# Altium footprint library General.PcbLib: 18 footprints (part 1 of 2)
Each footprint in its own frame and in the unit in brackets; x right, y up, seen from the top. Pads: shape width x height; smd on the part's side, far side on the other; paste and mask are expansions set on the pad; w line width, h text height; cw(c..) or ccw(c..) is an arc to the next point about the centre after c.
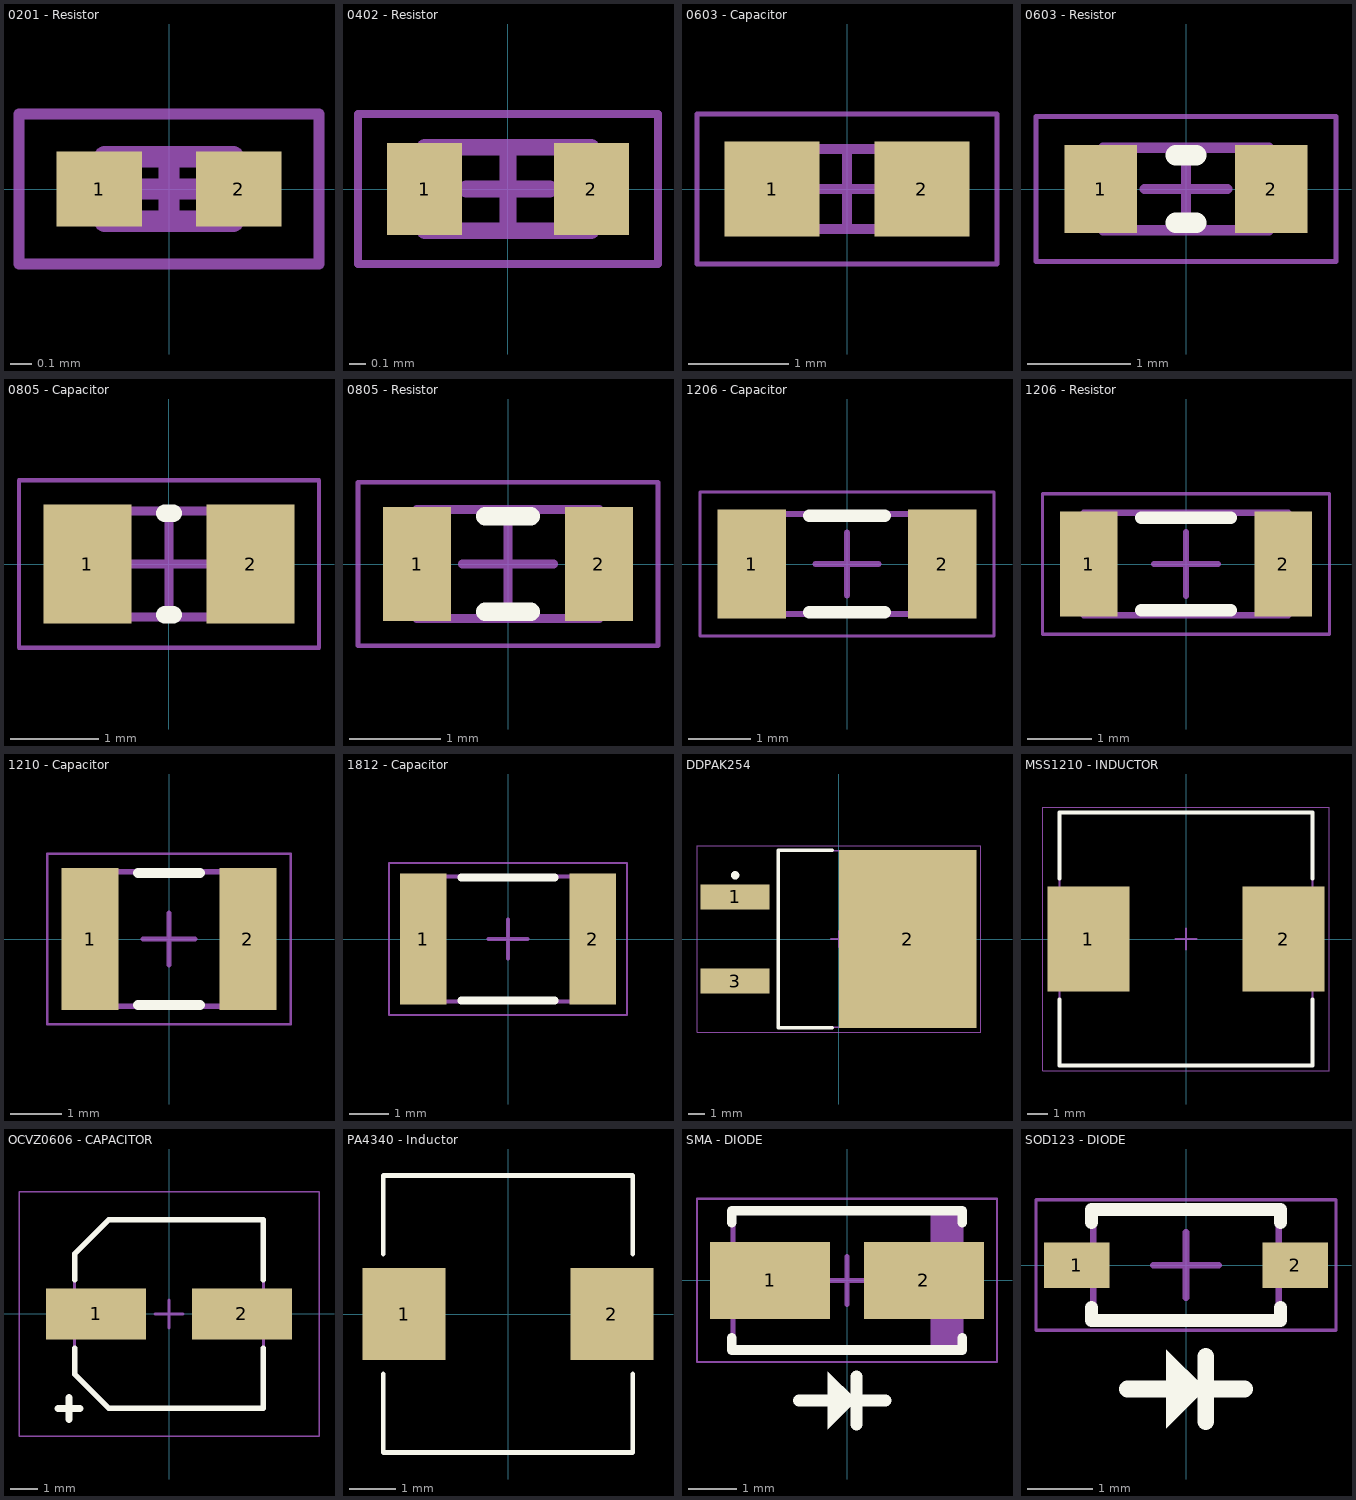
[diagram p0: the footprints below, top view; thin cyan lines are the x and y axes]

## 0201 - Resistor [mm] "0201 Chip Resistor - IPC Medium Density"
height 0.25
pads (2):
  rect 0.4x0.35 smd: 1(-0.325,0) 2(0.325,0)
Mechanical 13:
  lines w0.1: -0.3,-0.15 -0.3,0.15 0.3,0.15 0.3,-0.15 -0.3,-0.15
Mechanical 15:
  lines w0.05: -0.7,-0.35 -0.7,0.35 0.7,0.35 0.7,-0.35 -0.7,-0.35
  lines w0.1: -0.15,0 0.15,0 ; 0,-0.15 0,0.15
3D body "0201 - Resistor.step": height 0.25, standoff 0, extent -0.3,-0.15 0.3,0.15

## 0402 - Resistor [mm] "0402 Chip Resistor - IPC Medium Density"
height 0.35
pads (2):
  rect 0.45x0.55 smd: 1(-0.5,0) 2(0.5,0)
Mechanical 13:
  lines w0.1: -0.5,-0.25 -0.5,0.25 0.5,0.25 0.5,-0.25 -0.5,-0.25
Mechanical 15:
  lines w0.05: -0.9,-0.45 -0.9,0.45 0.9,0.45 0.9,-0.45 -0.9,-0.45
  lines w0.1: -0.25,0 0.25,0 ; 0,-0.25 0,0.25
3D body "0402 - Resistor.step": height 0.35, standoff 0, extent -0.5,-0.25 0.5,0.25

## 0603 - Capacitor [mm] "0603 Chip Capacitor - IPC Medium Density"
height 0.8
pads (2):
  rect 0.95x0.95 smd: 1(-0.75,0) 2(0.75,0)
Mechanical 13:
  lines w0.1: -0.8,-0.4 -0.8,0.4 0.8,0.4 0.8,-0.4 -0.8,-0.4
Mechanical 15:
  lines w0.05: -1.5,-0.75 -1.5,0.75 1.5,0.75 1.5,-0.75 -1.5,-0.75
  lines w0.1: -0.4,0 0.4,0 ; 0,-0.4 0,0.4
3D body "0603 Capacitor.step": height 0.8, standoff 0, extent -0.8,-0.4 0.8,0.4

## 0603 - Resistor [mm] "0603 Chip Resistor - IPC Medium Density"
height 0.45
pads (2):
  rect 0.7x0.85 smd: 1(-0.825,0) 2(0.825,0)
Top Overlay:
  lines w0.2: -0.1,-0.325 0.1,-0.325 ; -0.1,0.325 0.1,0.325
Mechanical 13:
  lines w0.1: -0.8,-0.4 0.8,-0.4 0.8,0.4 -0.8,0.4 -0.8,-0.4
Mechanical 15:
  lines w0.05: -1.45,-0.7 1.45,-0.7 1.45,0.7 -1.45,0.7 -1.45,-0.7
  lines w0.1: -0.4,0 0.4,0 ; 0,-0.4 0,0.4
3D body "0603 - Resistor.step": height 0.45, standoff 0, extent -0.8,-0.4 0.8,0.4

## 0805 - Capacitor [mm] "0805 Chip Capacitor - IPC Medium Density"
height 1.2
pads (2):
  rect 1x1.35 smd: 1(-0.925,0) 2(0.925,0)
Top Overlay:
  lines w0.2: -0.05,-0.575 0.05,-0.575 ; -0.05,0.575 0.05,0.575
Mechanical 13:
  lines w0.1: -1,-0.6 1,-0.6 1,0.6 -1,0.6 -1,-0.6
Mechanical 15:
  lines w0.05: -1.7,-0.95 1.7,-0.95 1.7,0.95 -1.7,0.95 -1.7,-0.95
  lines w0.1: -0.5,0 0.5,0 ; 0,-0.5 0,0.5
3D body "0805 - Capacitor.step": height 1.2, standoff 0, extent -1,-0.6 1,0.6

## 0805 - Resistor [mm] "0805 Chip Resistor - IPC Medium Density"
height 0.5
pads (2):
  rect 0.75x1.25 smd: 1(-1,0) 2(1,0)
Top Overlay:
  lines w0.2: -0.25,-0.525 0.25,-0.525 ; -0.25,0.525 0.25,0.525
Mechanical 13:
  lines w0.1: -1,-0.6 -1,0.6 1,0.6 1,-0.6 -1,-0.6
Mechanical 15:
  lines w0.05: -1.65,-0.9 -1.65,0.9 1.65,0.9 1.65,-0.9 -1.65,-0.9
  lines w0.1: -0.5,0 0.5,0 ; 0,-0.5 0,0.5
3D body "0805 Resistor.step": height 0.5, standoff 0, extent -1,-0.6 1,0.6

## 1206 - Capacitor [mm] "1206 Chip Capacitor - IPC Medium Density"
height 1.6
pads (2):
  rect 1.1x1.75 smd: 1(-1.525,0) 2(1.525,0)
Top Overlay:
  lines w0.2: -0.6,-0.775 0.6,-0.775 ; -0.6,0.775 0.6,0.775
Mechanical 13:
  lines w0.1: -1.65,-0.8 1.65,-0.8 1.65,0.8 -1.65,0.8 -1.65,-0.8
Mechanical 15:
  lines w0.05: -2.35,-1.15 2.35,-1.15 2.35,1.15 -2.35,1.15 -2.35,-1.15
  lines w0.1: -0.5,0 0.5,0 ; 0,-0.5 0,0.5
3D body "1206 - Capacitor.step": height 1.6, standoff 0, extent -1.65,-0.8 1.65,0.8

## 1206 - Resistor [mm] "1206 Chip Resistor - IPC Medium Density"
height 0.55
pads (2):
  rect 0.9x1.65 smd: 1(-1.525,0) 2(1.525,0)
Top Overlay:
  lines w0.2: -0.7,-0.725 0.7,-0.725 ; -0.7,0.725 0.7,0.725
Mechanical 13:
  lines w0.1: -1.6,-0.8 1.6,-0.8 1.6,0.8 -1.6,0.8 -1.6,-0.8
Mechanical 15:
  lines w0.05: -2.25,-1.1 2.25,-1.1 2.25,1.1 -2.25,1.1 -2.25,-1.1
  lines w0.1: -0.5,0 0.5,0 ; 0,-0.5 0,0.5
3D body "1206 - Resistor.step": height 0.55, standoff 0, extent -1.6,-0.8 1.6,0.8

## 1210 - Capacitor [mm] "1210 Chip Capacitor - IPC Medium Density"
height 1.6
pads (2):
  rect 1.1x2.75 smd: 1(-1.525,0) 2(1.525,0)
Top Overlay:
  lines w0.2: -0.6,-1.275 0.6,-1.275 ; -0.6,1.275 0.6,1.275
Mechanical 13:
  lines w0.1: -1.65,-1.3 1.65,-1.3 1.65,1.3 -1.65,1.3 -1.65,-1.3
Mechanical 15:
  lines w0.05: -2.35,-1.65 2.35,-1.65 2.35,1.65 -2.35,1.65 -2.35,-1.65
  lines w0.1: -0.5,0 0.5,0 ; 0,-0.5 0,0.5
3D body "1210 - Capacitor.step": height 1.6, standoff 0, extent -1.65,-1.3 1.65,1.3

## 1812 - Capacitor [mm] "1812 Chip Capacitor - IPC Medium Density"
height 2
pads (2):
  rect 1.2x3.35 smd: 1(-2.175,0) 2(2.175,0)
Top Overlay:
  lines w0.2: -1.2,-1.575 1.2,-1.575 ; -1.2,1.575 1.2,1.575
Mechanical 13:
  lines w0.1: -2.35,-1.6 2.35,-1.6 2.35,1.6 -2.35,1.6 -2.35,-1.6
Mechanical 15:
  lines w0.05: -3.05,-1.95 3.05,-1.95 3.05,1.95 -3.05,1.95 -3.05,-1.95
  lines w0.1: -0.5,0 0.5,0 ; 0,-0.5 0,0.5
3D body "1812 - Capacitor.step": height 2, standoff 0, extent -2.35,-1.6 2.35,1.6

## DDPAK254 [mm] "D2-PAK, 3-Pads, Body 7.93x8.70mm (max), IPC Medium Density"
height 4.83
pads (3):
  rect 4.15x1.5 smd: 1(-6.25,2.54) 3(-6.25,-2.54)
  rect 8.3x10.75 smd: 2(4.15,0)
Top Overlay:
  circle w0.25: c-6.25,3.84 r0.125
  lines w0.2: -0.4,-5.35 -3.65,-5.35 -3.65,5.35 -0.4,5.35
Mechanical 13:
  lines w0.1: -3.65,-5.325 -3.65,5.325 6,5.325 6,-5.325 -3.65,-5.325
Mechanical 15:
  lines w0.05: -8.55,-5.625 -8.55,5.625 8.55,5.625 8.55,-5.625 -8.55,-5.625
  lines w0.1: -0.5,0 0.5,0 ; 0,-0.5 0,0.5
3D body "DPAK254P1524X483-3N.step": height 4.96, standoff 0, extent -6.92,-5.325 8.325,5.325

## MSS1210 - INDUCTOR [mm] "Precision Wire Wound Inductor, 2-Leads, Body 12.00x12.00mm, IPC Medium Density"
height 10.2
pads (2):
  rect 4x5.1 smd: 1(-4.75,0) 2(4.75,0)
Top Overlay:
  lines w0.2: -6.15,-2.95 -6.15,-6.15 6.15,-6.15 6.15,-2.95 ; -6.15,2.95 -6.15,6.15 6.15,6.15 6.15,2.95
Mechanical 13:
  lines w0.1: -6.15,-6.15 6.15,-6.15 6.15,6.15 -6.15,6.15 -6.15,-6.15
Mechanical 15:
  lines w0.05: -6.975,-6.4 6.975,-6.4 6.975,6.4 -6.975,6.4 -6.975,-6.4
  lines w0.1: -0.5,0 0.5,0 ; 0,-0.5 0,0.5
3D body "Coilcraft-MSS1210.step": height 10.16, standoff -0.04, extent -6.15,-6.15 6.15,6.15

## OCVZ0606 - CAPACITOR [mm] "Aluminum Electrolytic Capacitor, Body 6.60x6.60x6.00mm, IPC Low Density"
height 6
pads (2):
  rect 3.6x1.85 smd: 1(-2.625,0) 2(2.625,0)
Top Overlay:
  lines w0.2: -3.4,-1.225 -3.4,-2.163 -2.163,-3.4 3.4,-3.4 3.4,-1.225 ; -3.4,1.225 -3.4,2.163 -2.163,3.4 3.4,3.4 3.4,1.225
  lines w0.254: -4,-3.4 -3.2,-3.4 ; -3.6,-3.8 -3.6,-3
Mechanical 13:
  lines w0.1: -3.4,-2.163 -3.4,2.163 -2.163,3.4 3.4,3.4 3.4,-3.4 -2.163,-3.4 -3.4,-2.163
Mechanical 15:
  lines w0.05: -5.4,-4.4 5.4,-4.4 5.4,4.4 -5.4,4.4 -5.4,-4.4
  lines w0.1: -0.5,0 0.5,0 ; 0,-0.5 0,0.5
3D body "OCVZ0606 - CAPACITOR.step": height 6, standoff 0, extent -3.6,-3.4 3.6,3.4

## PA4340 - Inductor [mm]
pads (2):
  rect 1.8x2 smd: 1(-2.25,0) 2(2.25,0)
Top Overlay:
  lines w0.1: -2.7,-1.3 -2.7,-3 2.7,-3 2.7,-1.3 ; -2.7,1.3 -2.7,3 2.7,3 2.7,1.3
3D body "User Library-PA4340-PM4340.STEP": height 2.7, standoff -0.15, extent -3,-2.7 3,2.7

## SMA - DIODE [mm] "Molded Diode, 2-Leads, Body 4.38x2.63mm, IPC Medium Density"
height 2.95
pads (2):
  rect 2.5x1.6 smd: 1(-1.6,0) 2(1.6,0)
Top Overlay:
  region: 0.2,-2.5 -0.4,-1.9 -0.4,-3.1
  lines w0.2: -2.4,-1.2 -2.4,-1.45 2.4,-1.45 2.4,-1.2 ; -2.4,1.2 -2.4,1.45 2.4,1.45 2.4,1.2
  lines w0.254: -1,-2.5 -0.4,-2.5 ; 0.2,-3 0.2,-2 ; 0.2,-2.5 0.8,-2.5
Mechanical 13:
  rectangle: 1.736,-1.425 2.375,1.425
  lines w0.1: -2.375,-1.425 2.375,-1.425 2.375,1.425 -2.375,1.425 -2.375,-1.425
Mechanical 15:
  lines w0.05: -3.125,-1.7 3.125,-1.7 3.125,1.7 -3.125,1.7 -3.125,-1.7
  lines w0.1: -0.5,0 0.5,0 ; 0,-0.5 0,0.5
3D body "SMA - DIODE.step": height 2.95, standoff 0, extent -2.595,-1.425 2.595,1.425

## SOD123 - DIODE [mm] "SOD, 2-Leads, Body 1.55x3.70mm, IPC Medium Density"
height 1.35
pads (2):
  rect 1x0.7 smd: 1(-1.675,0) 2(1.675,0)
Top Overlay:
  region: 0.3,-1.9 -0.3,-1.3 -0.3,-2.5
  lines w0.2: -1.45,-0.65 -1.45,-0.85 1.45,-0.85 1.45,-0.65 ; -1.45,0.65 -1.45,0.85 1.45,0.85 1.45,0.65
  lines w0.254: -0.9,-1.9 -0.3,-1.9 ; 0.3,-2.4 0.3,-1.4 ; 0.3,-1.9 0.9,-1.9
Mechanical 13:
  lines w0.1: -1.425,-0.85 1.425,-0.85 1.425,0.85 -1.425,0.85 -1.425,-0.85
Mechanical 15:
  lines w0.05: -2.3,-1 2.3,-1 2.3,1 -2.3,1 -2.3,-1
  lines w0.1: -0.5,0 0.5,0 ; 0,-0.5 0,0.5
3D body "SOD123 - DIODE.step": height 1.35, standoff 0, extent -1.85,-0.85 1.85,0.85